# Altium integrated library LT Operational Amplifier.IntLib: 1835 symbols (part 33 of 39)
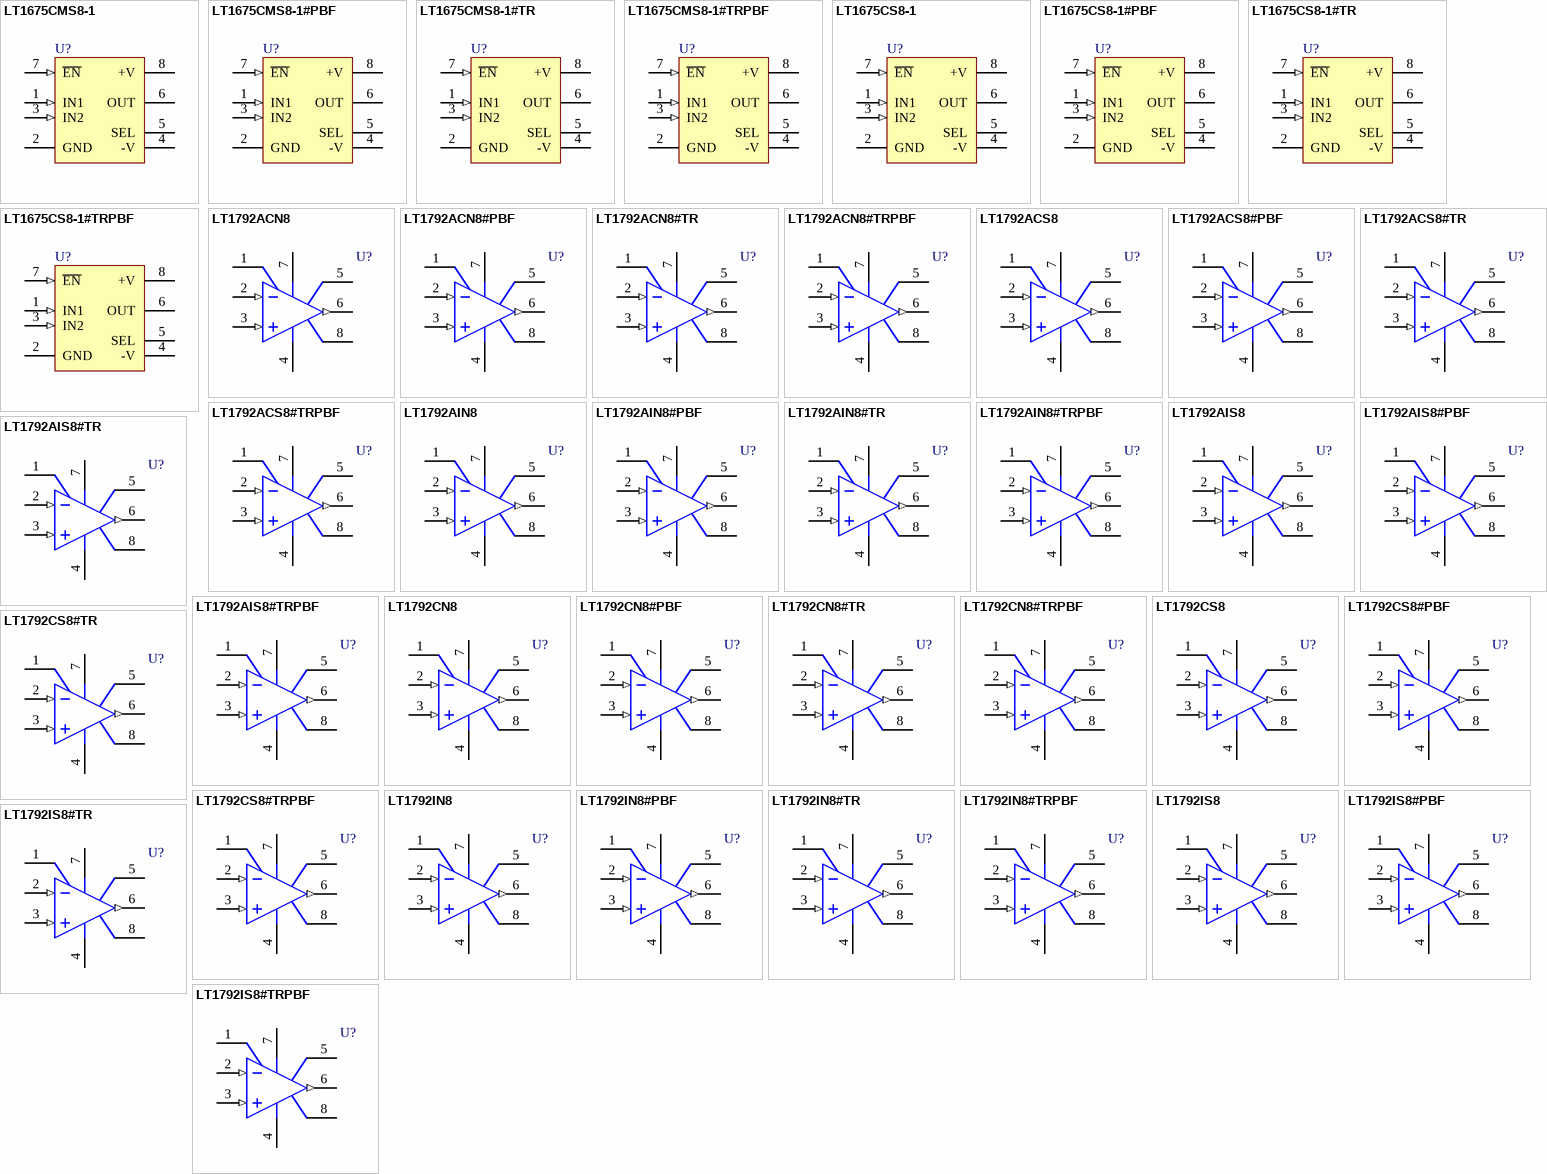
[diagram p119: symbols LT1675CMS8-1 to LT1792IS8#TRPBF]

## LT1792IN8#PBF
designator U?
Low Noise, Precision, JFET-Input Operational Amplifier; Note: Pin 8 is NC (not internally connected) pin.; Note: 1593; Published: 8-Jun-2000; LatestRevisionDate: 29-May-2009; LatestRevisionNote: Component Body Added.; DatasheetVersion: 1996; PackageVersion: N8 1002; PackageReference: N8; Publisher: Altium Limited; PackageDescription: DIP, Plastic, 8-Pin, Row Spacing 7.62 mm, Pitch 2.54 mm; ComponentLink1Description: Manufacturer Link; ComponentLink1URL: http://www.linear.com/; ComponentLink2Description: Datasheet; ComponentLink2URL: http://www.linear.com/pc/downloadDocument.do?navId=H0,C1,C1154,C1009,C1026,P1757,D2601
footprint N8 (DIP, 8-Leads, Row Spacing 7.62mm, Pitch 2.54mm, Body 9.78x6.48mm)
3D model N8 (DIP, Plastic, 8-Pin, Row Spacing 7.62 mm, Pitch 2.54 mm)
pins: 1 OS ADJ, 2 IN- (in), 3 IN+ (in), 4 V- (power), 5 OS ADJ, 6 OUT (out), 7 V+ (power), 8 NC

## LT1792IN8#TR
designator U?
Low Noise, Precision, JFET-Input Operational Amplifier; Note: Pin 8 is NC (not internally connected) pin.; Note: 1592; Published: 8-Jun-2000; LatestRevisionDate: 29-May-2009; LatestRevisionNote: Component Body Added.; DatasheetVersion: 1996; PackageVersion: N8 1002; PackageReference: N8; Publisher: Altium Limited; PackageDescription: DIP, Plastic, 8-Pin, Row Spacing 7.62 mm, Pitch 2.54 mm; ComponentLink1Description: Manufacturer Link; ComponentLink1URL: http://www.linear.com/; ComponentLink2Description: Datasheet; ComponentLink2URL: http://www.linear.com/pc/downloadDocument.do?navId=H0,C1,C1154,C1009,C1026,P1757,D2601
footprint N8 (DIP, 8-Leads, Row Spacing 7.62mm, Pitch 2.54mm, Body 9.78x6.48mm)
3D model N8 (DIP, Plastic, 8-Pin, Row Spacing 7.62 mm, Pitch 2.54 mm)
pins: 1 OS ADJ, 2 IN- (in), 3 IN+ (in), 4 V- (power), 5 OS ADJ, 6 OUT (out), 7 V+ (power), 8 NC

## LT1792IN8#TRPBF
designator U?
Low Noise, Precision, JFET-Input Operational Amplifier; Note: Pin 8 is NC (not internally connected) pin.; Note: 1594; Published: 8-Jun-2000; LatestRevisionDate: 29-May-2009; LatestRevisionNote: Component Body Added.; DatasheetVersion: 1996; PackageVersion: N8 1002; PackageReference: N8; Publisher: Altium Limited; PackageDescription: DIP, Plastic, 8-Pin, Row Spacing 7.62 mm, Pitch 2.54 mm; ComponentLink1Description: Manufacturer Link; ComponentLink1URL: http://www.linear.com/; ComponentLink2Description: Datasheet; ComponentLink2URL: http://www.linear.com/pc/downloadDocument.do?navId=H0,C1,C1154,C1009,C1026,P1757,D2601
footprint N8 (DIP, 8-Leads, Row Spacing 7.62mm, Pitch 2.54mm, Body 9.78x6.48mm)
3D model N8 (DIP, Plastic, 8-Pin, Row Spacing 7.62 mm, Pitch 2.54 mm)
pins: 1 OS ADJ, 2 IN- (in), 3 IN+ (in), 4 V- (power), 5 OS ADJ, 6 OUT (out), 7 V+ (power), 8 NC

## LT1792IS8
designator U?
Low Noise, Precision, JFET-Input Operational Amplifier; Note: Pin 8 is NC (not internally connected) pin.; Note: 1595; Published: 8-Jun-2000; LatestRevisionDate: 13-Apr-2006; LatestRevisionNote: IPC-7351 Footprint Added.; DatasheetVersion: 1996; PackageReference: S8; Publisher: Altium Limited; PackageDescription: 8-Pin Small Outline Integrated Circuit 1.27 mm Pitch; Code_JEDEC: MS-012-AA; Code_IPC: SOIC127P600-8; ComponentLink1Description: Manufacturer Link; ComponentLink1URL: http://www.linear.com/; ComponentLink2Description: Datasheet; ComponentLink2URL: http://www.linear.com/pc/downloadDocument.do?navId=H0,C1,C1154,C1009,C1026,P1757,D2601
footprint S8_N (SOIC, 8-Leads, Body 4.9x3.9mm, Pitch 1.27mm, IPC Medium Density)
footprint S8_L (SOIC, 8-Leads, Body 4.9x3.9mm, Pitch 1.27mm, IPC High Density)
footprint S8_M (SOIC, 8-Leads, Body 4.9x3.9mm, Pitch 1.27mm, IPC Low Density)
3D model S8 (8-Pin Small Outline Integrated Circuit 1.27 mm Pitch)
pins: 1 OS ADJ, 2 IN- (in), 3 IN+ (in), 4 V- (power), 5 OS ADJ, 6 OUT (out), 7 V+ (power), 8 NC

## LT1792IS8#PBF
designator U?
Low Noise, Precision, JFET-Input Operational Amplifier; Note: Pin 8 is NC (not internally connected) pin.; Note: 1597; Published: 8-Jun-2000; LatestRevisionDate: 13-Apr-2006; LatestRevisionNote: IPC-7351 Footprint Added.; DatasheetVersion: 1996; PackageReference: S8; Publisher: Altium Limited; PackageDescription: 8-Pin Small Outline Integrated Circuit 1.27 mm Pitch; Code_JEDEC: MS-012-AA; Code_IPC: SOIC127P600-8; ComponentLink1Description: Manufacturer Link; ComponentLink1URL: http://www.linear.com/; ComponentLink2Description: Datasheet; ComponentLink2URL: http://www.linear.com/pc/downloadDocument.do?navId=H0,C1,C1154,C1009,C1026,P1757,D2601
footprint S8_N (SOIC, 8-Leads, Body 4.9x3.9mm, Pitch 1.27mm, IPC Medium Density)
footprint S8_L (SOIC, 8-Leads, Body 4.9x3.9mm, Pitch 1.27mm, IPC High Density)
footprint S8_M (SOIC, 8-Leads, Body 4.9x3.9mm, Pitch 1.27mm, IPC Low Density)
3D model S8 (8-Pin Small Outline Integrated Circuit 1.27 mm Pitch)
pins: 1 OS ADJ, 2 IN- (in), 3 IN+ (in), 4 V- (power), 5 OS ADJ, 6 OUT (out), 7 V+ (power), 8 NC

## LT1792IS8#TR
designator U?
Low Noise, Precision, JFET-Input Operational Amplifier; Note: Pin 8 is NC (not internally connected) pin.; Note: 1596; Published: 8-Jun-2000; LatestRevisionDate: 13-Apr-2006; LatestRevisionNote: IPC-7351 Footprint Added.; DatasheetVersion: 1996; PackageReference: S8; Publisher: Altium Limited; PackageDescription: 8-Pin Small Outline Integrated Circuit 1.27 mm Pitch; Code_JEDEC: MS-012-AA; Code_IPC: SOIC127P600-8; ComponentLink1Description: Manufacturer Link; ComponentLink1URL: http://www.linear.com/; ComponentLink2Description: Datasheet; ComponentLink2URL: http://www.linear.com/pc/downloadDocument.do?navId=H0,C1,C1154,C1009,C1026,P1757,D2601
footprint S8_N (SOIC, 8-Leads, Body 4.9x3.9mm, Pitch 1.27mm, IPC Medium Density)
footprint S8_L (SOIC, 8-Leads, Body 4.9x3.9mm, Pitch 1.27mm, IPC High Density)
footprint S8_M (SOIC, 8-Leads, Body 4.9x3.9mm, Pitch 1.27mm, IPC Low Density)
3D model S8 (8-Pin Small Outline Integrated Circuit 1.27 mm Pitch)
pins: 1 OS ADJ, 2 IN- (in), 3 IN+ (in), 4 V- (power), 5 OS ADJ, 6 OUT (out), 7 V+ (power), 8 NC

## LT1792IS8#TRPBF
designator U?
Low Noise, Precision, JFET-Input Operational Amplifier; Note: Pin 8 is NC (not internally connected) pin.; Note: 1598; Published: 8-Jun-2000; LatestRevisionDate: 13-Apr-2006; LatestRevisionNote: IPC-7351 Footprint Added.; DatasheetVersion: 1996; PackageReference: S8; Publisher: Altium Limited; PackageDescription: 8-Pin Small Outline Integrated Circuit 1.27 mm Pitch; Code_JEDEC: MS-012-AA; Code_IPC: SOIC127P600-8; ComponentLink1Description: Manufacturer Link; ComponentLink1URL: http://www.linear.com/; ComponentLink2Description: Datasheet; ComponentLink2URL: http://www.linear.com/pc/downloadDocument.do?navId=H0,C1,C1154,C1009,C1026,P1757,D2601
footprint S8_N (SOIC, 8-Leads, Body 4.9x3.9mm, Pitch 1.27mm, IPC Medium Density)
footprint S8_L (SOIC, 8-Leads, Body 4.9x3.9mm, Pitch 1.27mm, IPC High Density)
footprint S8_M (SOIC, 8-Leads, Body 4.9x3.9mm, Pitch 1.27mm, IPC Low Density)
3D model S8 (8-Pin Small Outline Integrated Circuit 1.27 mm Pitch)
pins: 1 OS ADJ, 2 IN- (in), 3 IN+ (in), 4 V- (power), 5 OS ADJ, 6 OUT (out), 7 V+ (power), 8 NC

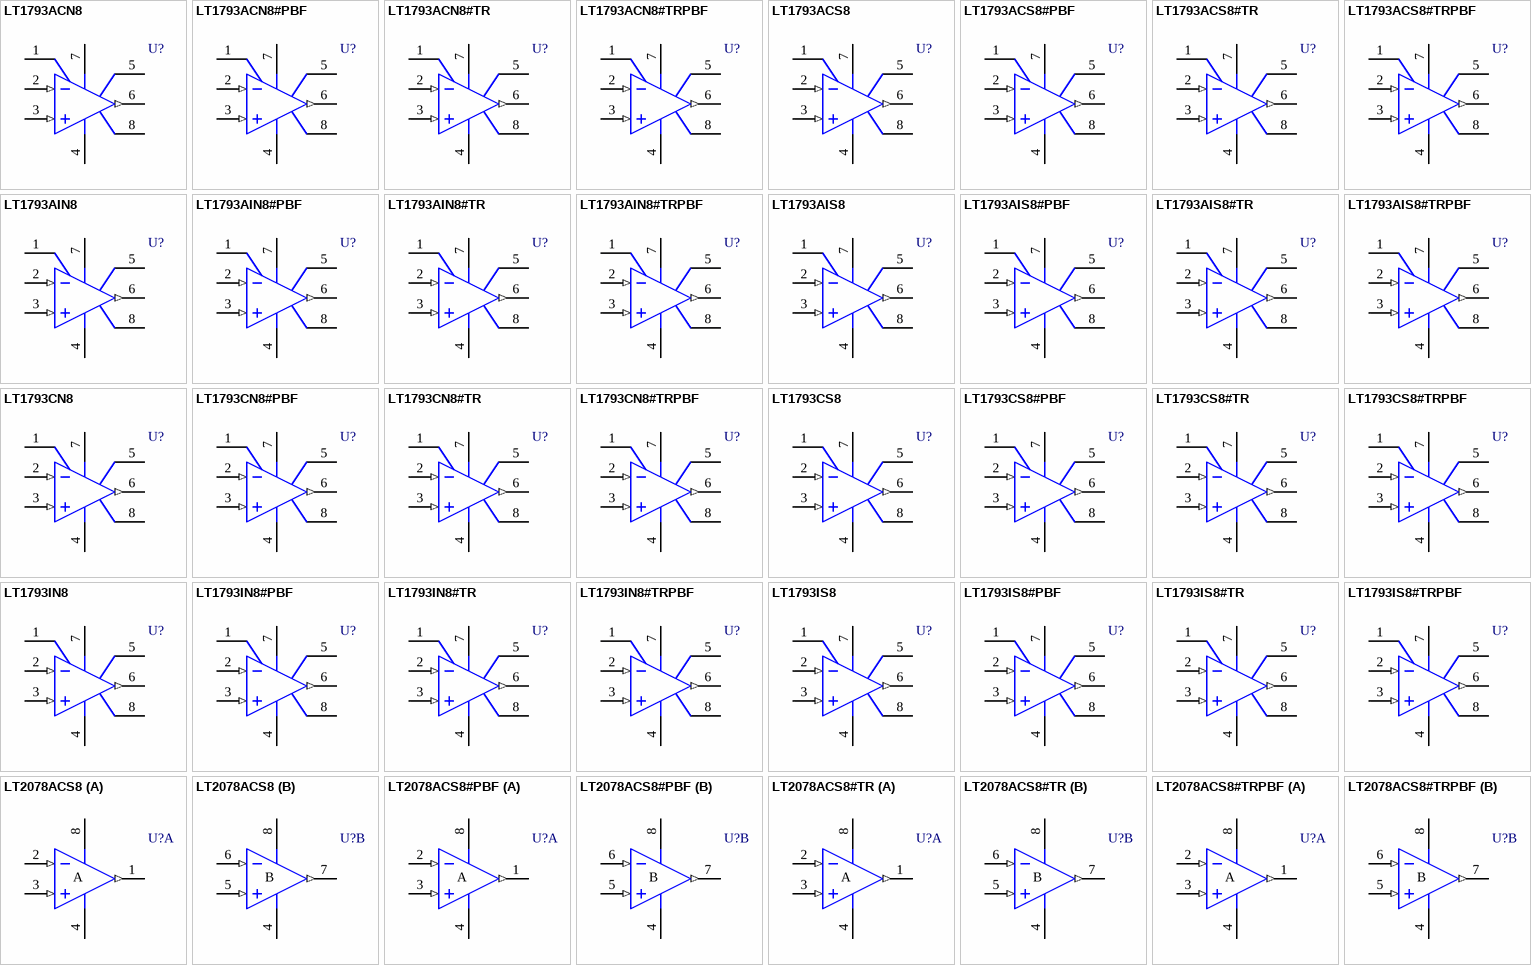
[diagram p76: symbols LT1793ACN8 to LT2078ACS8#TRPBF]

## LT1793ACN8
designator U?
Low Noise, Picoampere Bias Current, JFET-Input Operational Amplifier; Note: Pin 8 is NC (not internally connected) pin.; Note: 1599; Published: 8-Jun-2000; LatestRevisionDate: 29-May-2009; LatestRevisionNote: Component Body Added.; DatasheetVersion: 1996; PackageVersion: N8 1002; PackageReference: N8; Publisher: Altium Limited; PackageDescription: DIP, Plastic, 8-Pin, Row Spacing 7.62 mm, Pitch 2.54 mm; ComponentLink1Description: Manufacturer Link; ComponentLink1URL: http://www.linear.com/; ComponentLink2Description: Datasheet; ComponentLink2URL: http://www.linear.com/pc/downloadDocument.do?navId=H0,C1,C1154,C1009,C1100,P1758,D2498
footprint N8 (DIP, 8-Leads, Row Spacing 7.62mm, Pitch 2.54mm, Body 9.78x6.48mm)
3D model N8 (DIP, Plastic, 8-Pin, Row Spacing 7.62 mm, Pitch 2.54 mm)
pins: 1 OS ADJ, 2 IN- (in), 3 IN+ (in), 4 V- (power), 5 OS ADJ, 6 OUT (out), 7 V+ (power), 8 NC

## LT1793ACN8#PBF
designator U?
Low Noise, Picoampere Bias Current, JFET-Input Operational Amplifier; Note: Pin 8 is NC (not internally connected) pin.; Note: 1600; Published: 8-Jun-2000; LatestRevisionDate: 29-May-2009; LatestRevisionNote: Component Body Added.; DatasheetVersion: 1996; PackageVersion: N8 1002; PackageReference: N8; Publisher: Altium Limited; PackageDescription: DIP, Plastic, 8-Pin, Row Spacing 7.62 mm, Pitch 2.54 mm; ComponentLink1Description: Manufacturer Link; ComponentLink1URL: http://www.linear.com/; ComponentLink2Description: Datasheet; ComponentLink2URL: http://www.linear.com/pc/downloadDocument.do?navId=H0,C1,C1154,C1009,C1100,P1758,D2498
footprint N8 (DIP, 8-Leads, Row Spacing 7.62mm, Pitch 2.54mm, Body 9.78x6.48mm)
3D model N8 (DIP, Plastic, 8-Pin, Row Spacing 7.62 mm, Pitch 2.54 mm)
pins: 1 OS ADJ, 2 IN- (in), 3 IN+ (in), 4 V- (power), 5 OS ADJ, 6 OUT (out), 7 V+ (power), 8 NC

## LT1793ACN8#TR
designator U?
Low Noise, Picoampere Bias Current, JFET-Input Operational Amplifier; Note: Pin 8 is NC (not internally connected) pin.; Note: 1601; Published: 8-Jun-2000; LatestRevisionDate: 29-May-2009; LatestRevisionNote: Component Body Added.; DatasheetVersion: 1996; PackageVersion: N8 1002; PackageReference: N8; Publisher: Altium Limited; PackageDescription: DIP, Plastic, 8-Pin, Row Spacing 7.62 mm, Pitch 2.54 mm; ComponentLink1Description: Manufacturer Link; ComponentLink1URL: http://www.linear.com/; ComponentLink2Description: Datasheet; ComponentLink2URL: http://www.linear.com/pc/downloadDocument.do?navId=H0,C1,C1154,C1009,C1100,P1758,D2498
footprint N8 (DIP, 8-Leads, Row Spacing 7.62mm, Pitch 2.54mm, Body 9.78x6.48mm)
3D model N8 (DIP, Plastic, 8-Pin, Row Spacing 7.62 mm, Pitch 2.54 mm)
pins: 1 OS ADJ, 2 IN- (in), 3 IN+ (in), 4 V- (power), 5 OS ADJ, 6 OUT (out), 7 V+ (power), 8 NC

## LT1793ACN8#TRPBF
designator U?
Low Noise, Picoampere Bias Current, JFET-Input Operational Amplifier; Note: Pin 8 is NC (not internally connected) pin.; Note: 1602; Published: 8-Jun-2000; LatestRevisionDate: 29-May-2009; LatestRevisionNote: Component Body Added.; DatasheetVersion: 1996; PackageVersion: N8 1002; PackageReference: N8; Publisher: Altium Limited; PackageDescription: DIP, Plastic, 8-Pin, Row Spacing 7.62 mm, Pitch 2.54 mm; ComponentLink1Description: Manufacturer Link; ComponentLink1URL: http://www.linear.com/; ComponentLink2Description: Datasheet; ComponentLink2URL: http://www.linear.com/pc/downloadDocument.do?navId=H0,C1,C1154,C1009,C1100,P1758,D2498
footprint N8 (DIP, 8-Leads, Row Spacing 7.62mm, Pitch 2.54mm, Body 9.78x6.48mm)
3D model N8 (DIP, Plastic, 8-Pin, Row Spacing 7.62 mm, Pitch 2.54 mm)
pins: 1 OS ADJ, 2 IN- (in), 3 IN+ (in), 4 V- (power), 5 OS ADJ, 6 OUT (out), 7 V+ (power), 8 NC

## LT1793ACS8
designator U?
Low Noise, Picoampere Bias Current, JFET-Input Operational Amplifier; Note: Pin 8 is NC (not internally connected) pin.; Note: 1603; Published: 8-Jun-2000; LatestRevisionDate: 13-Apr-2006; LatestRevisionNote: IPC-7351 Footprint Added.; DatasheetVersion: 1996; PackageReference: S8; Publisher: Altium Limited; PackageDescription: 8-Pin Small Outline Integrated Circuit 1.27 mm Pitch; Code_JEDEC: MS-012-AA; Code_IPC: SOIC127P600-8; ComponentLink1Description: Manufacturer Link; ComponentLink1URL: http://www.linear.com/; ComponentLink2Description: Datasheet; ComponentLink2URL: http://www.linear.com/pc/downloadDocument.do?navId=H0,C1,C1154,C1009,C1100,P1758,D2498
footprint S8_N (SOIC, 8-Leads, Body 4.9x3.9mm, Pitch 1.27mm, IPC Medium Density)
footprint S8_L (SOIC, 8-Leads, Body 4.9x3.9mm, Pitch 1.27mm, IPC High Density)
footprint S8_M (SOIC, 8-Leads, Body 4.9x3.9mm, Pitch 1.27mm, IPC Low Density)
3D model S8 (8-Pin Small Outline Integrated Circuit 1.27 mm Pitch)
pins: 1 OS ADJ, 2 IN- (in), 3 IN+ (in), 4 V- (power), 5 OS ADJ, 6 OUT (out), 7 V+ (power), 8 NC

## LT1793ACS8#PBF
designator U?
Low Noise, Picoampere Bias Current, JFET-Input Operational Amplifier; Note: Pin 8 is NC (not internally connected) pin.; Note: 1604; Published: 8-Jun-2000; LatestRevisionDate: 13-Apr-2006; LatestRevisionNote: IPC-7351 Footprint Added.; DatasheetVersion: 1996; PackageReference: S8; Publisher: Altium Limited; PackageDescription: 8-Pin Small Outline Integrated Circuit 1.27 mm Pitch; Code_JEDEC: MS-012-AA; Code_IPC: SOIC127P600-8; ComponentLink1Description: Manufacturer Link; ComponentLink1URL: http://www.linear.com/; ComponentLink2Description: Datasheet; ComponentLink2URL: http://www.linear.com/pc/downloadDocument.do?navId=H0,C1,C1154,C1009,C1100,P1758,D2498
footprint S8_N (SOIC, 8-Leads, Body 4.9x3.9mm, Pitch 1.27mm, IPC Medium Density)
footprint S8_L (SOIC, 8-Leads, Body 4.9x3.9mm, Pitch 1.27mm, IPC High Density)
footprint S8_M (SOIC, 8-Leads, Body 4.9x3.9mm, Pitch 1.27mm, IPC Low Density)
3D model S8 (8-Pin Small Outline Integrated Circuit 1.27 mm Pitch)
pins: 1 OS ADJ, 2 IN- (in), 3 IN+ (in), 4 V- (power), 5 OS ADJ, 6 OUT (out), 7 V+ (power), 8 NC

## LT1793ACS8#TR
designator U?
Low Noise, Picoampere Bias Current, JFET-Input Operational Amplifier; Note: Pin 8 is NC (not internally connected) pin.; Note: 1605; Published: 8-Jun-2000; LatestRevisionDate: 13-Apr-2006; LatestRevisionNote: IPC-7351 Footprint Added.; DatasheetVersion: 1996; PackageReference: S8; Publisher: Altium Limited; PackageDescription: 8-Pin Small Outline Integrated Circuit 1.27 mm Pitch; Code_JEDEC: MS-012-AA; Code_IPC: SOIC127P600-8; ComponentLink1Description: Manufacturer Link; ComponentLink1URL: http://www.linear.com/; ComponentLink2Description: Datasheet; ComponentLink2URL: http://www.linear.com/pc/downloadDocument.do?navId=H0,C1,C1154,C1009,C1100,P1758,D2498
footprint S8_N (SOIC, 8-Leads, Body 4.9x3.9mm, Pitch 1.27mm, IPC Medium Density)
footprint S8_L (SOIC, 8-Leads, Body 4.9x3.9mm, Pitch 1.27mm, IPC High Density)
footprint S8_M (SOIC, 8-Leads, Body 4.9x3.9mm, Pitch 1.27mm, IPC Low Density)
3D model S8 (8-Pin Small Outline Integrated Circuit 1.27 mm Pitch)
pins: 1 OS ADJ, 2 IN- (in), 3 IN+ (in), 4 V- (power), 5 OS ADJ, 6 OUT (out), 7 V+ (power), 8 NC

## LT1793ACS8#TRPBF
designator U?
Low Noise, Picoampere Bias Current, JFET-Input Operational Amplifier; Note: Pin 8 is NC (not internally connected) pin.; Note: 1606; Published: 8-Jun-2000; LatestRevisionDate: 13-Apr-2006; LatestRevisionNote: IPC-7351 Footprint Added.; DatasheetVersion: 1996; PackageReference: S8; Publisher: Altium Limited; PackageDescription: 8-Pin Small Outline Integrated Circuit 1.27 mm Pitch; Code_JEDEC: MS-012-AA; Code_IPC: SOIC127P600-8; ComponentLink1Description: Manufacturer Link; ComponentLink1URL: http://www.linear.com/; ComponentLink2Description: Datasheet; ComponentLink2URL: http://www.linear.com/pc/downloadDocument.do?navId=H0,C1,C1154,C1009,C1100,P1758,D2498
footprint S8_N (SOIC, 8-Leads, Body 4.9x3.9mm, Pitch 1.27mm, IPC Medium Density)
footprint S8_L (SOIC, 8-Leads, Body 4.9x3.9mm, Pitch 1.27mm, IPC High Density)
footprint S8_M (SOIC, 8-Leads, Body 4.9x3.9mm, Pitch 1.27mm, IPC Low Density)
3D model S8 (8-Pin Small Outline Integrated Circuit 1.27 mm Pitch)
pins: 1 OS ADJ, 2 IN- (in), 3 IN+ (in), 4 V- (power), 5 OS ADJ, 6 OUT (out), 7 V+ (power), 8 NC

## LT1793AIN8
designator U?
Low Noise, Picoampere Bias Current, JFET-Input Operational Amplifier; Note: Pin 8 is NC (not internally connected) pin.; Note: 1607; Published: 8-Jun-2000; LatestRevisionDate: 29-May-2009; LatestRevisionNote: Component Body Added.; DatasheetVersion: 1996; PackageVersion: N8 1002; PackageReference: N8; Publisher: Altium Limited; PackageDescription: DIP, Plastic, 8-Pin, Row Spacing 7.62 mm, Pitch 2.54 mm; ComponentLink1Description: Manufacturer Link; ComponentLink1URL: http://www.linear.com/; ComponentLink2Description: Datasheet; ComponentLink2URL: http://www.linear.com/pc/downloadDocument.do?navId=H0,C1,C1154,C1009,C1100,P1758,D2498
footprint N8 (DIP, 8-Leads, Row Spacing 7.62mm, Pitch 2.54mm, Body 9.78x6.48mm)
3D model N8 (DIP, Plastic, 8-Pin, Row Spacing 7.62 mm, Pitch 2.54 mm)
pins: 1 OS ADJ, 2 IN- (in), 3 IN+ (in), 4 V- (power), 5 OS ADJ, 6 OUT (out), 7 V+ (power), 8 NC

## LT1793AIN8#PBF
designator U?
Low Noise, Picoampere Bias Current, JFET-Input Operational Amplifier; Note: Pin 8 is NC (not internally connected) pin.; Note: 1608; Published: 8-Jun-2000; LatestRevisionDate: 29-May-2009; LatestRevisionNote: Component Body Added.; DatasheetVersion: 1996; PackageVersion: N8 1002; PackageReference: N8; Publisher: Altium Limited; PackageDescription: DIP, Plastic, 8-Pin, Row Spacing 7.62 mm, Pitch 2.54 mm; ComponentLink1Description: Manufacturer Link; ComponentLink1URL: http://www.linear.com/; ComponentLink2Description: Datasheet; ComponentLink2URL: http://www.linear.com/pc/downloadDocument.do?navId=H0,C1,C1154,C1009,C1100,P1758,D2498
footprint N8 (DIP, 8-Leads, Row Spacing 7.62mm, Pitch 2.54mm, Body 9.78x6.48mm)
3D model N8 (DIP, Plastic, 8-Pin, Row Spacing 7.62 mm, Pitch 2.54 mm)
pins: 1 OS ADJ, 2 IN- (in), 3 IN+ (in), 4 V- (power), 5 OS ADJ, 6 OUT (out), 7 V+ (power), 8 NC

## LT1793AIN8#TR
designator U?
Low Noise, Picoampere Bias Current, JFET-Input Operational Amplifier; Note: Pin 8 is NC (not internally connected) pin.; Note: 1609; Published: 8-Jun-2000; LatestRevisionDate: 29-May-2009; LatestRevisionNote: Component Body Added.; DatasheetVersion: 1996; PackageVersion: N8 1002; PackageReference: N8; Publisher: Altium Limited; PackageDescription: DIP, Plastic, 8-Pin, Row Spacing 7.62 mm, Pitch 2.54 mm; ComponentLink1Description: Manufacturer Link; ComponentLink1URL: http://www.linear.com/; ComponentLink2Description: Datasheet; ComponentLink2URL: http://www.linear.com/pc/downloadDocument.do?navId=H0,C1,C1154,C1009,C1100,P1758,D2498
footprint N8 (DIP, 8-Leads, Row Spacing 7.62mm, Pitch 2.54mm, Body 9.78x6.48mm)
3D model N8 (DIP, Plastic, 8-Pin, Row Spacing 7.62 mm, Pitch 2.54 mm)
pins: 1 OS ADJ, 2 IN- (in), 3 IN+ (in), 4 V- (power), 5 OS ADJ, 6 OUT (out), 7 V+ (power), 8 NC

## LT1793AIN8#TRPBF
designator U?
Low Noise, Picoampere Bias Current, JFET-Input Operational Amplifier; Note: Pin 8 is NC (not internally connected) pin.; Note: 1610; Published: 8-Jun-2000; LatestRevisionDate: 29-May-2009; LatestRevisionNote: Component Body Added.; DatasheetVersion: 1996; PackageVersion: N8 1002; PackageReference: N8; Publisher: Altium Limited; PackageDescription: DIP, Plastic, 8-Pin, Row Spacing 7.62 mm, Pitch 2.54 mm; ComponentLink1Description: Manufacturer Link; ComponentLink1URL: http://www.linear.com/; ComponentLink2Description: Datasheet; ComponentLink2URL: http://www.linear.com/pc/downloadDocument.do?navId=H0,C1,C1154,C1009,C1100,P1758,D2498
footprint N8 (DIP, 8-Leads, Row Spacing 7.62mm, Pitch 2.54mm, Body 9.78x6.48mm)
3D model N8 (DIP, Plastic, 8-Pin, Row Spacing 7.62 mm, Pitch 2.54 mm)
pins: 1 OS ADJ, 2 IN- (in), 3 IN+ (in), 4 V- (power), 5 OS ADJ, 6 OUT (out), 7 V+ (power), 8 NC

## LT1793AIS8
designator U?
Low Noise, Picoampere Bias Current, JFET-Input Operational Amplifier; Note: Pin 8 is NC (not internally connected) pin.; Note: 1611; Published: 8-Jun-2000; LatestRevisionDate: 13-Apr-2006; LatestRevisionNote: IPC-7351 Footprint Added.; DatasheetVersion: 1996; PackageReference: S8; Publisher: Altium Limited; PackageDescription: 8-Pin Small Outline Integrated Circuit 1.27 mm Pitch; Code_JEDEC: MS-012-AA; Code_IPC: SOIC127P600-8; ComponentLink1Description: Manufacturer Link; ComponentLink1URL: http://www.linear.com/; ComponentLink2Description: Datasheet; ComponentLink2URL: http://www.linear.com/pc/downloadDocument.do?navId=H0,C1,C1154,C1009,C1100,P1758,D2498
footprint S8_N (SOIC, 8-Leads, Body 4.9x3.9mm, Pitch 1.27mm, IPC Medium Density)
footprint S8_L (SOIC, 8-Leads, Body 4.9x3.9mm, Pitch 1.27mm, IPC High Density)
footprint S8_M (SOIC, 8-Leads, Body 4.9x3.9mm, Pitch 1.27mm, IPC Low Density)
3D model S8 (8-Pin Small Outline Integrated Circuit 1.27 mm Pitch)
pins: 1 OS ADJ, 2 IN- (in), 3 IN+ (in), 4 V- (power), 5 OS ADJ, 6 OUT (out), 7 V+ (power), 8 NC

## LT1793AIS8#PBF
designator U?
Low Noise, Picoampere Bias Current, JFET-Input Operational Amplifier; Note: Pin 8 is NC (not internally connected) pin.; Note: 1612; Published: 8-Jun-2000; LatestRevisionDate: 13-Apr-2006; LatestRevisionNote: IPC-7351 Footprint Added.; DatasheetVersion: 1996; PackageReference: S8; Publisher: Altium Limited; PackageDescription: 8-Pin Small Outline Integrated Circuit 1.27 mm Pitch; Code_JEDEC: MS-012-AA; Code_IPC: SOIC127P600-8; ComponentLink1Description: Manufacturer Link; ComponentLink1URL: http://www.linear.com/; ComponentLink2Description: Datasheet; ComponentLink2URL: http://www.linear.com/pc/downloadDocument.do?navId=H0,C1,C1154,C1009,C1100,P1758,D2498
footprint S8_N (SOIC, 8-Leads, Body 4.9x3.9mm, Pitch 1.27mm, IPC Medium Density)
footprint S8_L (SOIC, 8-Leads, Body 4.9x3.9mm, Pitch 1.27mm, IPC High Density)
footprint S8_M (SOIC, 8-Leads, Body 4.9x3.9mm, Pitch 1.27mm, IPC Low Density)
3D model S8 (8-Pin Small Outline Integrated Circuit 1.27 mm Pitch)
pins: 1 OS ADJ, 2 IN- (in), 3 IN+ (in), 4 V- (power), 5 OS ADJ, 6 OUT (out), 7 V+ (power), 8 NC

## LT1793AIS8#TR
designator U?
Low Noise, Picoampere Bias Current, JFET-Input Operational Amplifier; Note: Pin 8 is NC (not internally connected) pin.; Note: 1613; Published: 8-Jun-2000; LatestRevisionDate: 13-Apr-2006; LatestRevisionNote: IPC-7351 Footprint Added.; DatasheetVersion: 1996; PackageReference: S8; Publisher: Altium Limited; PackageDescription: 8-Pin Small Outline Integrated Circuit 1.27 mm Pitch; Code_JEDEC: MS-012-AA; Code_IPC: SOIC127P600-8; ComponentLink1Description: Manufacturer Link; ComponentLink1URL: http://www.linear.com/; ComponentLink2Description: Datasheet; ComponentLink2URL: http://www.linear.com/pc/downloadDocument.do?navId=H0,C1,C1154,C1009,C1100,P1758,D2498
footprint S8_N (SOIC, 8-Leads, Body 4.9x3.9mm, Pitch 1.27mm, IPC Medium Density)
footprint S8_L (SOIC, 8-Leads, Body 4.9x3.9mm, Pitch 1.27mm, IPC High Density)
footprint S8_M (SOIC, 8-Leads, Body 4.9x3.9mm, Pitch 1.27mm, IPC Low Density)
3D model S8 (8-Pin Small Outline Integrated Circuit 1.27 mm Pitch)
pins: 1 OS ADJ, 2 IN- (in), 3 IN+ (in), 4 V- (power), 5 OS ADJ, 6 OUT (out), 7 V+ (power), 8 NC

## LT1793AIS8#TRPBF
designator U?
Low Noise, Picoampere Bias Current, JFET-Input Operational Amplifier; Note: Pin 8 is NC (not internally connected) pin.; Note: 1614; Published: 8-Jun-2000; LatestRevisionDate: 13-Apr-2006; LatestRevisionNote: IPC-7351 Footprint Added.; DatasheetVersion: 1996; PackageReference: S8; Publisher: Altium Limited; PackageDescription: 8-Pin Small Outline Integrated Circuit 1.27 mm Pitch; Code_JEDEC: MS-012-AA; Code_IPC: SOIC127P600-8; ComponentLink1Description: Manufacturer Link; ComponentLink1URL: http://www.linear.com/; ComponentLink2Description: Datasheet; ComponentLink2URL: http://www.linear.com/pc/downloadDocument.do?navId=H0,C1,C1154,C1009,C1100,P1758,D2498
footprint S8_N (SOIC, 8-Leads, Body 4.9x3.9mm, Pitch 1.27mm, IPC Medium Density)
footprint S8_L (SOIC, 8-Leads, Body 4.9x3.9mm, Pitch 1.27mm, IPC High Density)
footprint S8_M (SOIC, 8-Leads, Body 4.9x3.9mm, Pitch 1.27mm, IPC Low Density)
3D model S8 (8-Pin Small Outline Integrated Circuit 1.27 mm Pitch)
pins: 1 OS ADJ, 2 IN- (in), 3 IN+ (in), 4 V- (power), 5 OS ADJ, 6 OUT (out), 7 V+ (power), 8 NC

## LT1793CN8
designator U?
Low Noise, Picoampere Bias Current, JFET-Input Operational Amplifier; Note: Pin 8 is NC (not internally connected) pin.; Note: 1615; Published: 8-Jun-2000; LatestRevisionDate: 29-May-2009; LatestRevisionNote: Component Body Added.; DatasheetVersion: 1996; PackageVersion: N8 1002; PackageReference: N8; Publisher: Altium Limited; PackageDescription: DIP, Plastic, 8-Pin, Row Spacing 7.62 mm, Pitch 2.54 mm; ComponentLink1Description: Manufacturer Link; ComponentLink1URL: http://www.linear.com/; ComponentLink2Description: Datasheet; ComponentLink2URL: http://www.linear.com/pc/downloadDocument.do?navId=H0,C1,C1154,C1009,C1100,P1758,D2498
footprint N8 (DIP, 8-Leads, Row Spacing 7.62mm, Pitch 2.54mm, Body 9.78x6.48mm)
3D model N8 (DIP, Plastic, 8-Pin, Row Spacing 7.62 mm, Pitch 2.54 mm)
pins: 1 OS ADJ, 2 IN- (in), 3 IN+ (in), 4 V- (power), 5 OS ADJ, 6 OUT (out), 7 V+ (power), 8 NC

## LT1793CN8#PBF
designator U?
Low Noise, Picoampere Bias Current, JFET-Input Operational Amplifier; Note: Pin 8 is NC (not internally connected) pin.; Note: 1616; Published: 8-Jun-2000; LatestRevisionDate: 29-May-2009; LatestRevisionNote: Component Body Added.; DatasheetVersion: 1996; PackageVersion: N8 1002; PackageReference: N8; Publisher: Altium Limited; PackageDescription: DIP, Plastic, 8-Pin, Row Spacing 7.62 mm, Pitch 2.54 mm; ComponentLink1Description: Manufacturer Link; ComponentLink1URL: http://www.linear.com/; ComponentLink2Description: Datasheet; ComponentLink2URL: http://www.linear.com/pc/downloadDocument.do?navId=H0,C1,C1154,C1009,C1100,P1758,D2498
footprint N8 (DIP, 8-Leads, Row Spacing 7.62mm, Pitch 2.54mm, Body 9.78x6.48mm)
3D model N8 (DIP, Plastic, 8-Pin, Row Spacing 7.62 mm, Pitch 2.54 mm)
pins: 1 OS ADJ, 2 IN- (in), 3 IN+ (in), 4 V- (power), 5 OS ADJ, 6 OUT (out), 7 V+ (power), 8 NC

## LT1793CN8#TR
designator U?
Low Noise, Picoampere Bias Current, JFET-Input Operational Amplifier; Note: Pin 8 is NC (not internally connected) pin.; Note: 1617; Published: 8-Jun-2000; LatestRevisionDate: 29-May-2009; LatestRevisionNote: Component Body Added.; DatasheetVersion: 1996; PackageVersion: N8 1002; PackageReference: N8; Publisher: Altium Limited; PackageDescription: DIP, Plastic, 8-Pin, Row Spacing 7.62 mm, Pitch 2.54 mm; ComponentLink1Description: Manufacturer Link; ComponentLink1URL: http://www.linear.com/; ComponentLink2Description: Datasheet; ComponentLink2URL: http://www.linear.com/pc/downloadDocument.do?navId=H0,C1,C1154,C1009,C1100,P1758,D2498
footprint N8 (DIP, 8-Leads, Row Spacing 7.62mm, Pitch 2.54mm, Body 9.78x6.48mm)
3D model N8 (DIP, Plastic, 8-Pin, Row Spacing 7.62 mm, Pitch 2.54 mm)
pins: 1 OS ADJ, 2 IN- (in), 3 IN+ (in), 4 V- (power), 5 OS ADJ, 6 OUT (out), 7 V+ (power), 8 NC

## LT1793CN8#TRPBF
designator U?
Low Noise, Picoampere Bias Current, JFET-Input Operational Amplifier; Note: Pin 8 is NC (not internally connected) pin.; Note: 1618; Published: 8-Jun-2000; LatestRevisionDate: 29-May-2009; LatestRevisionNote: Component Body Added.; DatasheetVersion: 1996; PackageVersion: N8 1002; PackageReference: N8; Publisher: Altium Limited; PackageDescription: DIP, Plastic, 8-Pin, Row Spacing 7.62 mm, Pitch 2.54 mm; ComponentLink1Description: Manufacturer Link; ComponentLink1URL: http://www.linear.com/; ComponentLink2Description: Datasheet; ComponentLink2URL: http://www.linear.com/pc/downloadDocument.do?navId=H0,C1,C1154,C1009,C1100,P1758,D2498
footprint N8 (DIP, 8-Leads, Row Spacing 7.62mm, Pitch 2.54mm, Body 9.78x6.48mm)
3D model N8 (DIP, Plastic, 8-Pin, Row Spacing 7.62 mm, Pitch 2.54 mm)
pins: 1 OS ADJ, 2 IN- (in), 3 IN+ (in), 4 V- (power), 5 OS ADJ, 6 OUT (out), 7 V+ (power), 8 NC

## LT1793CS8
designator U?
Low Noise, Picoampere Bias Current, JFET-Input Operational Amplifier; Note: Pin 8 is NC (not internally connected) pin.; Note: 1619; Published: 8-Jun-2000; LatestRevisionDate: 13-Apr-2006; LatestRevisionNote: IPC-7351 Footprint Added.; DatasheetVersion: 1996; PackageReference: S8; Publisher: Altium Limited; PackageDescription: 8-Pin Small Outline Integrated Circuit 1.27 mm Pitch; Code_JEDEC: MS-012-AA; Code_IPC: SOIC127P600-8; ComponentLink1Description: Manufacturer Link; ComponentLink1URL: http://www.linear.com/; ComponentLink2Description: Datasheet; ComponentLink2URL: http://www.linear.com/pc/downloadDocument.do?navId=H0,C1,C1154,C1009,C1100,P1758,D2498
footprint S8_N (SOIC, 8-Leads, Body 4.9x3.9mm, Pitch 1.27mm, IPC Medium Density)
footprint S8_L (SOIC, 8-Leads, Body 4.9x3.9mm, Pitch 1.27mm, IPC High Density)
footprint S8_M (SOIC, 8-Leads, Body 4.9x3.9mm, Pitch 1.27mm, IPC Low Density)
3D model S8 (8-Pin Small Outline Integrated Circuit 1.27 mm Pitch)
pins: 1 OS ADJ, 2 IN- (in), 3 IN+ (in), 4 V- (power), 5 OS ADJ, 6 OUT (out), 7 V+ (power), 8 NC

## LT1793CS8#PBF
designator U?
Low Noise, Picoampere Bias Current, JFET-Input Operational Amplifier; Note: Pin 8 is NC (not internally connected) pin.; Note: 1620; Published: 8-Jun-2000; LatestRevisionDate: 13-Apr-2006; LatestRevisionNote: IPC-7351 Footprint Added.; DatasheetVersion: 1996; PackageReference: S8; Publisher: Altium Limited; PackageDescription: 8-Pin Small Outline Integrated Circuit 1.27 mm Pitch; Code_JEDEC: MS-012-AA; Code_IPC: SOIC127P600-8; ComponentLink1Description: Manufacturer Link; ComponentLink1URL: http://www.linear.com/; ComponentLink2Description: Datasheet; ComponentLink2URL: http://www.linear.com/pc/downloadDocument.do?navId=H0,C1,C1154,C1009,C1100,P1758,D2498
footprint S8_N (SOIC, 8-Leads, Body 4.9x3.9mm, Pitch 1.27mm, IPC Medium Density)
footprint S8_L (SOIC, 8-Leads, Body 4.9x3.9mm, Pitch 1.27mm, IPC High Density)
footprint S8_M (SOIC, 8-Leads, Body 4.9x3.9mm, Pitch 1.27mm, IPC Low Density)
3D model S8 (8-Pin Small Outline Integrated Circuit 1.27 mm Pitch)
pins: 1 OS ADJ, 2 IN- (in), 3 IN+ (in), 4 V- (power), 5 OS ADJ, 6 OUT (out), 7 V+ (power), 8 NC

## LT1793CS8#TR
designator U?
Low Noise, Picoampere Bias Current, JFET-Input Operational Amplifier; Note: Pin 8 is NC (not internally connected) pin.; Note: 1621; Published: 8-Jun-2000; LatestRevisionDate: 13-Apr-2006; LatestRevisionNote: IPC-7351 Footprint Added.; DatasheetVersion: 1996; PackageReference: S8; Publisher: Altium Limited; PackageDescription: 8-Pin Small Outline Integrated Circuit 1.27 mm Pitch; Code_JEDEC: MS-012-AA; Code_IPC: SOIC127P600-8; ComponentLink1Description: Manufacturer Link; ComponentLink1URL: http://www.linear.com/; ComponentLink2Description: Datasheet; ComponentLink2URL: http://www.linear.com/pc/downloadDocument.do?navId=H0,C1,C1154,C1009,C1100,P1758,D2498
footprint S8_N (SOIC, 8-Leads, Body 4.9x3.9mm, Pitch 1.27mm, IPC Medium Density)
footprint S8_L (SOIC, 8-Leads, Body 4.9x3.9mm, Pitch 1.27mm, IPC High Density)
footprint S8_M (SOIC, 8-Leads, Body 4.9x3.9mm, Pitch 1.27mm, IPC Low Density)
3D model S8 (8-Pin Small Outline Integrated Circuit 1.27 mm Pitch)
pins: 1 OS ADJ, 2 IN- (in), 3 IN+ (in), 4 V- (power), 5 OS ADJ, 6 OUT (out), 7 V+ (power), 8 NC

## LT1793CS8#TRPBF
designator U?
Low Noise, Picoampere Bias Current, JFET-Input Operational Amplifier; Note: Pin 8 is NC (not internally connected) pin.; Note: 1622; Published: 8-Jun-2000; LatestRevisionDate: 13-Apr-2006; LatestRevisionNote: IPC-7351 Footprint Added.; DatasheetVersion: 1996; PackageReference: S8; Publisher: Altium Limited; PackageDescription: 8-Pin Small Outline Integrated Circuit 1.27 mm Pitch; Code_JEDEC: MS-012-AA; Code_IPC: SOIC127P600-8; ComponentLink1Description: Manufacturer Link; ComponentLink1URL: http://www.linear.com/; ComponentLink2Description: Datasheet; ComponentLink2URL: http://www.linear.com/pc/downloadDocument.do?navId=H0,C1,C1154,C1009,C1100,P1758,D2498
footprint S8_N (SOIC, 8-Leads, Body 4.9x3.9mm, Pitch 1.27mm, IPC Medium Density)
footprint S8_L (SOIC, 8-Leads, Body 4.9x3.9mm, Pitch 1.27mm, IPC High Density)
footprint S8_M (SOIC, 8-Leads, Body 4.9x3.9mm, Pitch 1.27mm, IPC Low Density)
3D model S8 (8-Pin Small Outline Integrated Circuit 1.27 mm Pitch)
pins: 1 OS ADJ, 2 IN- (in), 3 IN+ (in), 4 V- (power), 5 OS ADJ, 6 OUT (out), 7 V+ (power), 8 NC

## LT1793IN8
designator U?
Low Noise, Picoampere Bias Current, JFET-Input Operational Amplifier; Note: Pin 8 is NC (not internally connected) pin.; Note: 1623; Published: 8-Jun-2000; LatestRevisionDate: 29-May-2009; LatestRevisionNote: Component Body Added.; DatasheetVersion: 1996; PackageVersion: N8 1002; PackageReference: N8; Publisher: Altium Limited; PackageDescription: DIP, Plastic, 8-Pin, Row Spacing 7.62 mm, Pitch 2.54 mm; ComponentLink1Description: Manufacturer Link; ComponentLink1URL: http://www.linear.com/; ComponentLink2Description: Datasheet; ComponentLink2URL: http://www.linear.com/pc/downloadDocument.do?navId=H0,C1,C1154,C1009,C1100,P1758,D2498
footprint N8 (DIP, 8-Leads, Row Spacing 7.62mm, Pitch 2.54mm, Body 9.78x6.48mm)
3D model N8 (DIP, Plastic, 8-Pin, Row Spacing 7.62 mm, Pitch 2.54 mm)
pins: 1 OS ADJ, 2 IN- (in), 3 IN+ (in), 4 V- (power), 5 OS ADJ, 6 OUT (out), 7 V+ (power), 8 NC

## LT1793IN8#PBF
designator U?
Low Noise, Picoampere Bias Current, JFET-Input Operational Amplifier; Note: Pin 8 is NC (not internally connected) pin.; Note: 1624; Published: 8-Jun-2000; LatestRevisionDate: 29-May-2009; LatestRevisionNote: Component Body Added.; DatasheetVersion: 1996; PackageVersion: N8 1002; PackageReference: N8; Publisher: Altium Limited; PackageDescription: DIP, Plastic, 8-Pin, Row Spacing 7.62 mm, Pitch 2.54 mm; ComponentLink1Description: Manufacturer Link; ComponentLink1URL: http://www.linear.com/; ComponentLink2Description: Datasheet; ComponentLink2URL: http://www.linear.com/pc/downloadDocument.do?navId=H0,C1,C1154,C1009,C1100,P1758,D2498
footprint N8 (DIP, 8-Leads, Row Spacing 7.62mm, Pitch 2.54mm, Body 9.78x6.48mm)
3D model N8 (DIP, Plastic, 8-Pin, Row Spacing 7.62 mm, Pitch 2.54 mm)
pins: 1 OS ADJ, 2 IN- (in), 3 IN+ (in), 4 V- (power), 5 OS ADJ, 6 OUT (out), 7 V+ (power), 8 NC

## LT1793IN8#TR
designator U?
Low Noise, Picoampere Bias Current, JFET-Input Operational Amplifier; Note: Pin 8 is NC (not internally connected) pin.; Note: 1625; Published: 8-Jun-2000; LatestRevisionDate: 29-May-2009; LatestRevisionNote: Component Body Added.; DatasheetVersion: 1996; PackageVersion: N8 1002; PackageReference: N8; Publisher: Altium Limited; PackageDescription: DIP, Plastic, 8-Pin, Row Spacing 7.62 mm, Pitch 2.54 mm; ComponentLink1Description: Manufacturer Link; ComponentLink1URL: http://www.linear.com/; ComponentLink2Description: Datasheet; ComponentLink2URL: http://www.linear.com/pc/downloadDocument.do?navId=H0,C1,C1154,C1009,C1100,P1758,D2498
footprint N8 (DIP, 8-Leads, Row Spacing 7.62mm, Pitch 2.54mm, Body 9.78x6.48mm)
3D model N8 (DIP, Plastic, 8-Pin, Row Spacing 7.62 mm, Pitch 2.54 mm)
pins: 1 OS ADJ, 2 IN- (in), 3 IN+ (in), 4 V- (power), 5 OS ADJ, 6 OUT (out), 7 V+ (power), 8 NC

## LT1793IN8#TRPBF
designator U?
Low Noise, Picoampere Bias Current, JFET-Input Operational Amplifier; Note: Pin 8 is NC (not internally connected) pin.; Note: 1626; Published: 8-Jun-2000; LatestRevisionDate: 29-May-2009; LatestRevisionNote: Component Body Added.; DatasheetVersion: 1996; PackageVersion: N8 1002; PackageReference: N8; Publisher: Altium Limited; PackageDescription: DIP, Plastic, 8-Pin, Row Spacing 7.62 mm, Pitch 2.54 mm; ComponentLink1Description: Manufacturer Link; ComponentLink1URL: http://www.linear.com/; ComponentLink2Description: Datasheet; ComponentLink2URL: http://www.linear.com/pc/downloadDocument.do?navId=H0,C1,C1154,C1009,C1100,P1758,D2498
footprint N8 (DIP, 8-Leads, Row Spacing 7.62mm, Pitch 2.54mm, Body 9.78x6.48mm)
3D model N8 (DIP, Plastic, 8-Pin, Row Spacing 7.62 mm, Pitch 2.54 mm)
pins: 1 OS ADJ, 2 IN- (in), 3 IN+ (in), 4 V- (power), 5 OS ADJ, 6 OUT (out), 7 V+ (power), 8 NC

## LT1793IS8
designator U?
Low Noise, Picoampere Bias Current, JFET-Input Operational Amplifier; Note: Pin 8 is NC (not internally connected) pin.; Note: 1627; Published: 8-Jun-2000; LatestRevisionDate: 13-Apr-2006; LatestRevisionNote: IPC-7351 Footprint Added.; DatasheetVersion: 1996; PackageReference: S8; Publisher: Altium Limited; PackageDescription: 8-Pin Small Outline Integrated Circuit 1.27 mm Pitch; Code_JEDEC: MS-012-AA; Code_IPC: SOIC127P600-8; ComponentLink1Description: Manufacturer Link; ComponentLink1URL: http://www.linear.com/; ComponentLink2Description: Datasheet; ComponentLink2URL: http://www.linear.com/pc/downloadDocument.do?navId=H0,C1,C1154,C1009,C1100,P1758,D2498
footprint S8_N (SOIC, 8-Leads, Body 4.9x3.9mm, Pitch 1.27mm, IPC Medium Density)
footprint S8_L (SOIC, 8-Leads, Body 4.9x3.9mm, Pitch 1.27mm, IPC High Density)
footprint S8_M (SOIC, 8-Leads, Body 4.9x3.9mm, Pitch 1.27mm, IPC Low Density)
3D model S8 (8-Pin Small Outline Integrated Circuit 1.27 mm Pitch)
pins: 1 OS ADJ, 2 IN- (in), 3 IN+ (in), 4 V- (power), 5 OS ADJ, 6 OUT (out), 7 V+ (power), 8 NC

## LT1793IS8#PBF
designator U?
Low Noise, Picoampere Bias Current, JFET-Input Operational Amplifier; Note: Pin 8 is NC (not internally connected) pin.; Note: 1628; Published: 8-Jun-2000; LatestRevisionDate: 13-Apr-2006; LatestRevisionNote: IPC-7351 Footprint Added.; DatasheetVersion: 1996; PackageReference: S8; Publisher: Altium Limited; PackageDescription: 8-Pin Small Outline Integrated Circuit 1.27 mm Pitch; Code_JEDEC: MS-012-AA; Code_IPC: SOIC127P600-8; ComponentLink1Description: Manufacturer Link; ComponentLink1URL: http://www.linear.com/; ComponentLink2Description: Datasheet; ComponentLink2URL: http://www.linear.com/pc/downloadDocument.do?navId=H0,C1,C1154,C1009,C1100,P1758,D2498
footprint S8_N (SOIC, 8-Leads, Body 4.9x3.9mm, Pitch 1.27mm, IPC Medium Density)
footprint S8_L (SOIC, 8-Leads, Body 4.9x3.9mm, Pitch 1.27mm, IPC High Density)
footprint S8_M (SOIC, 8-Leads, Body 4.9x3.9mm, Pitch 1.27mm, IPC Low Density)
3D model S8 (8-Pin Small Outline Integrated Circuit 1.27 mm Pitch)
pins: 1 OS ADJ, 2 IN- (in), 3 IN+ (in), 4 V- (power), 5 OS ADJ, 6 OUT (out), 7 V+ (power), 8 NC

## LT1793IS8#TR
designator U?
Low Noise, Picoampere Bias Current, JFET-Input Operational Amplifier; Note: Pin 8 is NC (not internally connected) pin.; Note: 1629; Published: 8-Jun-2000; LatestRevisionDate: 13-Apr-2006; LatestRevisionNote: IPC-7351 Footprint Added.; DatasheetVersion: 1996; PackageReference: S8; Publisher: Altium Limited; PackageDescription: 8-Pin Small Outline Integrated Circuit 1.27 mm Pitch; Code_JEDEC: MS-012-AA; Code_IPC: SOIC127P600-8; ComponentLink1Description: Manufacturer Link; ComponentLink1URL: http://www.linear.com/; ComponentLink2Description: Datasheet; ComponentLink2URL: http://www.linear.com/pc/downloadDocument.do?navId=H0,C1,C1154,C1009,C1100,P1758,D2498
footprint S8_N (SOIC, 8-Leads, Body 4.9x3.9mm, Pitch 1.27mm, IPC Medium Density)
footprint S8_L (SOIC, 8-Leads, Body 4.9x3.9mm, Pitch 1.27mm, IPC High Density)
footprint S8_M (SOIC, 8-Leads, Body 4.9x3.9mm, Pitch 1.27mm, IPC Low Density)
3D model S8 (8-Pin Small Outline Integrated Circuit 1.27 mm Pitch)
pins: 1 OS ADJ, 2 IN- (in), 3 IN+ (in), 4 V- (power), 5 OS ADJ, 6 OUT (out), 7 V+ (power), 8 NC

## LT1793IS8#TRPBF
designator U?
Low Noise, Picoampere Bias Current, JFET-Input Operational Amplifier; Note: Pin 8 is NC (not internally connected) pin.; Note: 1630; Published: 8-Jun-2000; LatestRevisionDate: 13-Apr-2006; LatestRevisionNote: IPC-7351 Footprint Added.; DatasheetVersion: 1996; PackageReference: S8; Publisher: Altium Limited; PackageDescription: 8-Pin Small Outline Integrated Circuit 1.27 mm Pitch; Code_JEDEC: MS-012-AA; Code_IPC: SOIC127P600-8; ComponentLink1Description: Manufacturer Link; ComponentLink1URL: http://www.linear.com/; ComponentLink2Description: Datasheet; ComponentLink2URL: http://www.linear.com/pc/downloadDocument.do?navId=H0,C1,C1154,C1009,C1100,P1758,D2498
footprint S8_N (SOIC, 8-Leads, Body 4.9x3.9mm, Pitch 1.27mm, IPC Medium Density)
footprint S8_L (SOIC, 8-Leads, Body 4.9x3.9mm, Pitch 1.27mm, IPC High Density)
footprint S8_M (SOIC, 8-Leads, Body 4.9x3.9mm, Pitch 1.27mm, IPC Low Density)
3D model S8 (8-Pin Small Outline Integrated Circuit 1.27 mm Pitch)
pins: 1 OS ADJ, 2 IN- (in), 3 IN+ (in), 4 V- (power), 5 OS ADJ, 6 OUT (out), 7 V+ (power), 8 NC

## LT2078ACS8
designator U?
Micropower, Dual, Single Supply, Precision Operational Amplifier; Note: 1647; Published: 8-Jun-2000; LatestRevisionDate: 13-Apr-2006; LatestRevisionNote: IPC-7351 Footprint Added.; DatasheetVersion: 1996; PackageReference: S8; Publisher: Altium Limited; PackageDescription: 8-Pin Small Outline Integrated Circuit 1.27 mm Pitch; Code_JEDEC: MS-012-AA; Code_IPC: SOIC127P600-8; ComponentLink1Description: Manufacturer Link; ComponentLink1URL: http://www.linear.com/; ComponentLink2Description: Datasheet; ComponentLink2URL: http://www.linear.com/pc/downloadDocument.do?navId=H0,C1,C1154,C1009,C1099,P1538,D3884
footprint S8_N (SOIC, 8-Leads, Body 4.9x3.9mm, Pitch 1.27mm, IPC Medium Density)
footprint S8_L (SOIC, 8-Leads, Body 4.9x3.9mm, Pitch 1.27mm, IPC High Density)
footprint S8_M (SOIC, 8-Leads, Body 4.9x3.9mm, Pitch 1.27mm, IPC Low Density)
3D model S8 (8-Pin Small Outline Integrated Circuit 1.27 mm Pitch)
simulation model LT2078A (SUBCKT)
pins on every part: 4 V- (power), 8 V+ (power)
part A pins: 1 OUT (out), 2 IN- (in), 3 IN+ (in)
part B pins: 5 IN+ (in), 6 IN- (in), 7 OUT (out)
part A text: A
part B text: B

## LT2078ACS8#PBF
designator U?
Micropower, Dual, Single Supply, Precision Operational Amplifier; Note: 1649; Published: 8-Jun-2000; LatestRevisionDate: 13-Apr-2006; LatestRevisionNote: IPC-7351 Footprint Added.; DatasheetVersion: 1996; PackageReference: S8; Publisher: Altium Limited; PackageDescription: 8-Pin Small Outline Integrated Circuit 1.27 mm Pitch; Code_JEDEC: MS-012-AA; Code_IPC: SOIC127P600-8; ComponentLink1Description: Manufacturer Link; ComponentLink1URL: http://www.linear.com/; ComponentLink2Description: Datasheet; ComponentLink2URL: http://www.linear.com/pc/downloadDocument.do?navId=H0,C1,C1154,C1009,C1099,P1538,D3884
footprint S8_N (SOIC, 8-Leads, Body 4.9x3.9mm, Pitch 1.27mm, IPC Medium Density)
footprint S8_L (SOIC, 8-Leads, Body 4.9x3.9mm, Pitch 1.27mm, IPC High Density)
footprint S8_M (SOIC, 8-Leads, Body 4.9x3.9mm, Pitch 1.27mm, IPC Low Density)
3D model S8 (8-Pin Small Outline Integrated Circuit 1.27 mm Pitch)
simulation model LT2078A (SUBCKT)
pins on every part: 4 V- (power), 8 V+ (power)
part A pins: 1 OUT (out), 2 IN- (in), 3 IN+ (in)
part B pins: 5 IN+ (in), 6 IN- (in), 7 OUT (out)
part A text: A
part B text: B

## LT2078ACS8#TR
designator U?
Micropower, Dual, Single Supply, Precision Operational Amplifier; Note: 1648; Published: 8-Jun-2000; LatestRevisionDate: 13-Apr-2006; LatestRevisionNote: IPC-7351 Footprint Added.; DatasheetVersion: 1996; PackageReference: S8; Publisher: Altium Limited; PackageDescription: 8-Pin Small Outline Integrated Circuit 1.27 mm Pitch; Code_JEDEC: MS-012-AA; Code_IPC: SOIC127P600-8; ComponentLink1Description: Manufacturer Link; ComponentLink1URL: http://www.linear.com/; ComponentLink2Description: Datasheet; ComponentLink2URL: http://www.linear.com/pc/downloadDocument.do?navId=H0,C1,C1154,C1009,C1099,P1538,D3884
footprint S8_N (SOIC, 8-Leads, Body 4.9x3.9mm, Pitch 1.27mm, IPC Medium Density)
footprint S8_L (SOIC, 8-Leads, Body 4.9x3.9mm, Pitch 1.27mm, IPC High Density)
footprint S8_M (SOIC, 8-Leads, Body 4.9x3.9mm, Pitch 1.27mm, IPC Low Density)
3D model S8 (8-Pin Small Outline Integrated Circuit 1.27 mm Pitch)
simulation model LT2078A (SUBCKT)
pins on every part: 4 V- (power), 8 V+ (power)
part A pins: 1 OUT (out), 2 IN- (in), 3 IN+ (in)
part B pins: 5 IN+ (in), 6 IN- (in), 7 OUT (out)
part A text: A
part B text: B

## LT2078ACS8#TRPBF
designator U?
Micropower, Dual, Single Supply, Precision Operational Amplifier; Note: 1650; Published: 8-Jun-2000; LatestRevisionDate: 13-Apr-2006; LatestRevisionNote: IPC-7351 Footprint Added.; DatasheetVersion: 1996; PackageReference: S8; Publisher: Altium Limited; PackageDescription: 8-Pin Small Outline Integrated Circuit 1.27 mm Pitch; Code_JEDEC: MS-012-AA; Code_IPC: SOIC127P600-8; ComponentLink1Description: Manufacturer Link; ComponentLink1URL: http://www.linear.com/; ComponentLink2Description: Datasheet; ComponentLink2URL: http://www.linear.com/pc/downloadDocument.do?navId=H0,C1,C1154,C1009,C1099,P1538,D3884
footprint S8_N (SOIC, 8-Leads, Body 4.9x3.9mm, Pitch 1.27mm, IPC Medium Density)
footprint S8_L (SOIC, 8-Leads, Body 4.9x3.9mm, Pitch 1.27mm, IPC High Density)
footprint S8_M (SOIC, 8-Leads, Body 4.9x3.9mm, Pitch 1.27mm, IPC Low Density)
3D model S8 (8-Pin Small Outline Integrated Circuit 1.27 mm Pitch)
simulation model LT2078A (SUBCKT)
pins on every part: 4 V- (power), 8 V+ (power)
part A pins: 1 OUT (out), 2 IN- (in), 3 IN+ (in)
part B pins: 5 IN+ (in), 6 IN- (in), 7 OUT (out)
part A text: A
part B text: B

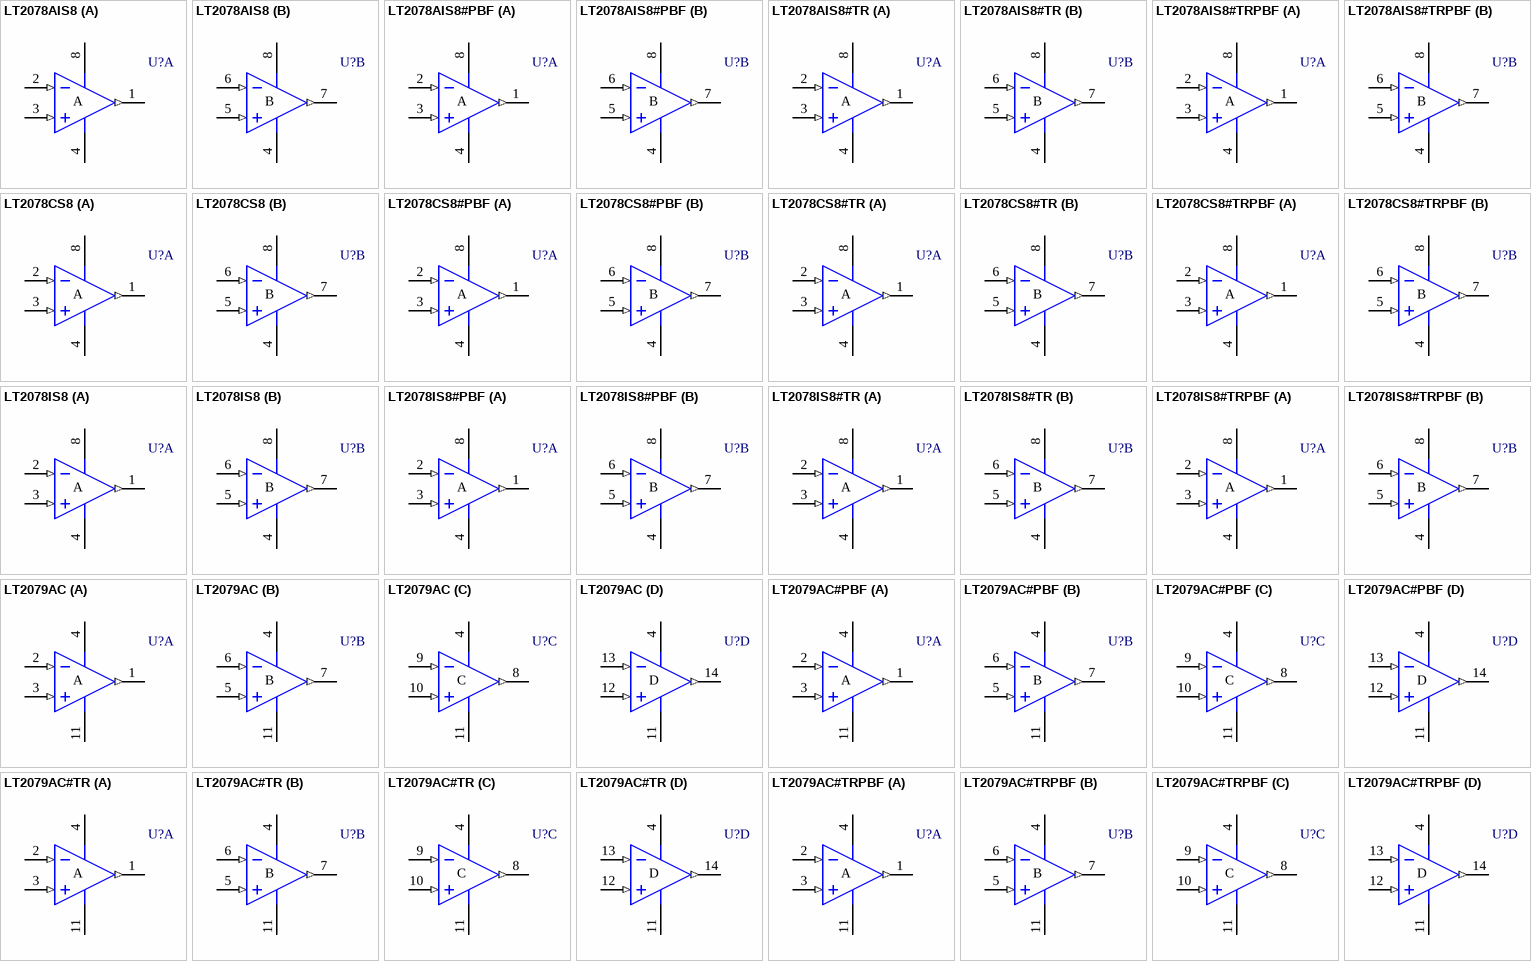
[diagram p77: symbols LT2078AIS8 to LT2079AC#TRPBF]

## LT2078AIS8
designator U?
Micropower, Dual, Single Supply, Precision Operational Amplifier; Note: 1651; Published: 8-Jun-2000; LatestRevisionDate: 13-Apr-2006; LatestRevisionNote: IPC-7351 Footprint Added.; DatasheetVersion: 1996; PackageReference: S8; Publisher: Altium Limited; PackageDescription: 8-Pin Small Outline Integrated Circuit 1.27 mm Pitch; Code_JEDEC: MS-012-AA; Code_IPC: SOIC127P600-8; ComponentLink1Description: Manufacturer Link; ComponentLink1URL: http://www.linear.com/; ComponentLink2Description: Datasheet; ComponentLink2URL: http://www.linear.com/pc/downloadDocument.do?navId=H0,C1,C1154,C1009,C1099,P1538,D3884
footprint S8_N (SOIC, 8-Leads, Body 4.9x3.9mm, Pitch 1.27mm, IPC Medium Density)
footprint S8_L (SOIC, 8-Leads, Body 4.9x3.9mm, Pitch 1.27mm, IPC High Density)
footprint S8_M (SOIC, 8-Leads, Body 4.9x3.9mm, Pitch 1.27mm, IPC Low Density)
3D model S8 (8-Pin Small Outline Integrated Circuit 1.27 mm Pitch)
simulation model LT2078A (SUBCKT)
pins on every part: 4 V- (power), 8 V+ (power)
part A pins: 1 OUT (out), 2 IN- (in), 3 IN+ (in)
part B pins: 5 IN+ (in), 6 IN- (in), 7 OUT (out)
part A text: A
part B text: B

## LT2078AIS8#PBF
designator U?
Micropower, Dual, Single Supply, Precision Operational Amplifier; Note: 1653; Published: 8-Jun-2000; LatestRevisionDate: 13-Apr-2006; LatestRevisionNote: IPC-7351 Footprint Added.; DatasheetVersion: 1996; PackageReference: S8; Publisher: Altium Limited; PackageDescription: 8-Pin Small Outline Integrated Circuit 1.27 mm Pitch; Code_JEDEC: MS-012-AA; Code_IPC: SOIC127P600-8; ComponentLink1Description: Manufacturer Link; ComponentLink1URL: http://www.linear.com/; ComponentLink2Description: Datasheet; ComponentLink2URL: http://www.linear.com/pc/downloadDocument.do?navId=H0,C1,C1154,C1009,C1099,P1538,D3884
footprint S8_N (SOIC, 8-Leads, Body 4.9x3.9mm, Pitch 1.27mm, IPC Medium Density)
footprint S8_L (SOIC, 8-Leads, Body 4.9x3.9mm, Pitch 1.27mm, IPC High Density)
footprint S8_M (SOIC, 8-Leads, Body 4.9x3.9mm, Pitch 1.27mm, IPC Low Density)
3D model S8 (8-Pin Small Outline Integrated Circuit 1.27 mm Pitch)
simulation model LT2078A (SUBCKT)
pins on every part: 4 V- (power), 8 V+ (power)
part A pins: 1 OUT (out), 2 IN- (in), 3 IN+ (in)
part B pins: 5 IN+ (in), 6 IN- (in), 7 OUT (out)
part A text: A
part B text: B

## LT2078AIS8#TR
designator U?
Micropower, Dual, Single Supply, Precision Operational Amplifier; Note: 1652; Published: 8-Jun-2000; LatestRevisionDate: 13-Apr-2006; LatestRevisionNote: IPC-7351 Footprint Added.; DatasheetVersion: 1996; PackageReference: S8; Publisher: Altium Limited; PackageDescription: 8-Pin Small Outline Integrated Circuit 1.27 mm Pitch; Code_JEDEC: MS-012-AA; Code_IPC: SOIC127P600-8; ComponentLink1Description: Manufacturer Link; ComponentLink1URL: http://www.linear.com/; ComponentLink2Description: Datasheet; ComponentLink2URL: http://www.linear.com/pc/downloadDocument.do?navId=H0,C1,C1154,C1009,C1099,P1538,D3884
footprint S8_N (SOIC, 8-Leads, Body 4.9x3.9mm, Pitch 1.27mm, IPC Medium Density)
footprint S8_L (SOIC, 8-Leads, Body 4.9x3.9mm, Pitch 1.27mm, IPC High Density)
footprint S8_M (SOIC, 8-Leads, Body 4.9x3.9mm, Pitch 1.27mm, IPC Low Density)
3D model S8 (8-Pin Small Outline Integrated Circuit 1.27 mm Pitch)
simulation model LT2078A (SUBCKT)
pins on every part: 4 V- (power), 8 V+ (power)
part A pins: 1 OUT (out), 2 IN- (in), 3 IN+ (in)
part B pins: 5 IN+ (in), 6 IN- (in), 7 OUT (out)
part A text: A
part B text: B

## LT2078AIS8#TRPBF
designator U?
Micropower, Dual, Single Supply, Precision Operational Amplifier; Note: 1654; Published: 8-Jun-2000; LatestRevisionDate: 13-Apr-2006; LatestRevisionNote: IPC-7351 Footprint Added.; DatasheetVersion: 1996; PackageReference: S8; Publisher: Altium Limited; PackageDescription: 8-Pin Small Outline Integrated Circuit 1.27 mm Pitch; Code_JEDEC: MS-012-AA; Code_IPC: SOIC127P600-8; ComponentLink1Description: Manufacturer Link; ComponentLink1URL: http://www.linear.com/; ComponentLink2Description: Datasheet; ComponentLink2URL: http://www.linear.com/pc/downloadDocument.do?navId=H0,C1,C1154,C1009,C1099,P1538,D3884
footprint S8_N (SOIC, 8-Leads, Body 4.9x3.9mm, Pitch 1.27mm, IPC Medium Density)
footprint S8_L (SOIC, 8-Leads, Body 4.9x3.9mm, Pitch 1.27mm, IPC High Density)
footprint S8_M (SOIC, 8-Leads, Body 4.9x3.9mm, Pitch 1.27mm, IPC Low Density)
3D model S8 (8-Pin Small Outline Integrated Circuit 1.27 mm Pitch)
simulation model LT2078A (SUBCKT)
pins on every part: 4 V- (power), 8 V+ (power)
part A pins: 1 OUT (out), 2 IN- (in), 3 IN+ (in)
part B pins: 5 IN+ (in), 6 IN- (in), 7 OUT (out)
part A text: A
part B text: B

## LT2078CS8
designator U?
Micropower, Dual, Single Supply, Precision Operational Amplifier; Note: 1655; Published: 8-Jun-2000; LatestRevisionDate: 13-Apr-2006; LatestRevisionNote: IPC-7351 Footprint Added.; DatasheetVersion: 1996; PackageReference: S8; Publisher: Altium Limited; PackageDescription: 8-Pin Small Outline Integrated Circuit 1.27 mm Pitch; Code_JEDEC: MS-012-AA; Code_IPC: SOIC127P600-8; ComponentLink1Description: Manufacturer Link; ComponentLink1URL: http://www.linear.com/; ComponentLink2Description: Datasheet; ComponentLink2URL: http://www.linear.com/pc/downloadDocument.do?navId=H0,C1,C1154,C1009,C1099,P1538,D3884
footprint S8_N (SOIC, 8-Leads, Body 4.9x3.9mm, Pitch 1.27mm, IPC Medium Density)
footprint S8_L (SOIC, 8-Leads, Body 4.9x3.9mm, Pitch 1.27mm, IPC High Density)
footprint S8_M (SOIC, 8-Leads, Body 4.9x3.9mm, Pitch 1.27mm, IPC Low Density)
3D model S8 (8-Pin Small Outline Integrated Circuit 1.27 mm Pitch)
simulation model LT2078 (SUBCKT)
pins on every part: 4 V- (power), 8 V+ (power)
part A pins: 1 OUT (out), 2 IN- (in), 3 IN+ (in)
part B pins: 5 IN+ (in), 6 IN- (in), 7 OUT (out)
part A text: A
part B text: B